# Altium integrated library Renesas ASSP.IntLib: 185 symbols (part 4 of 6)
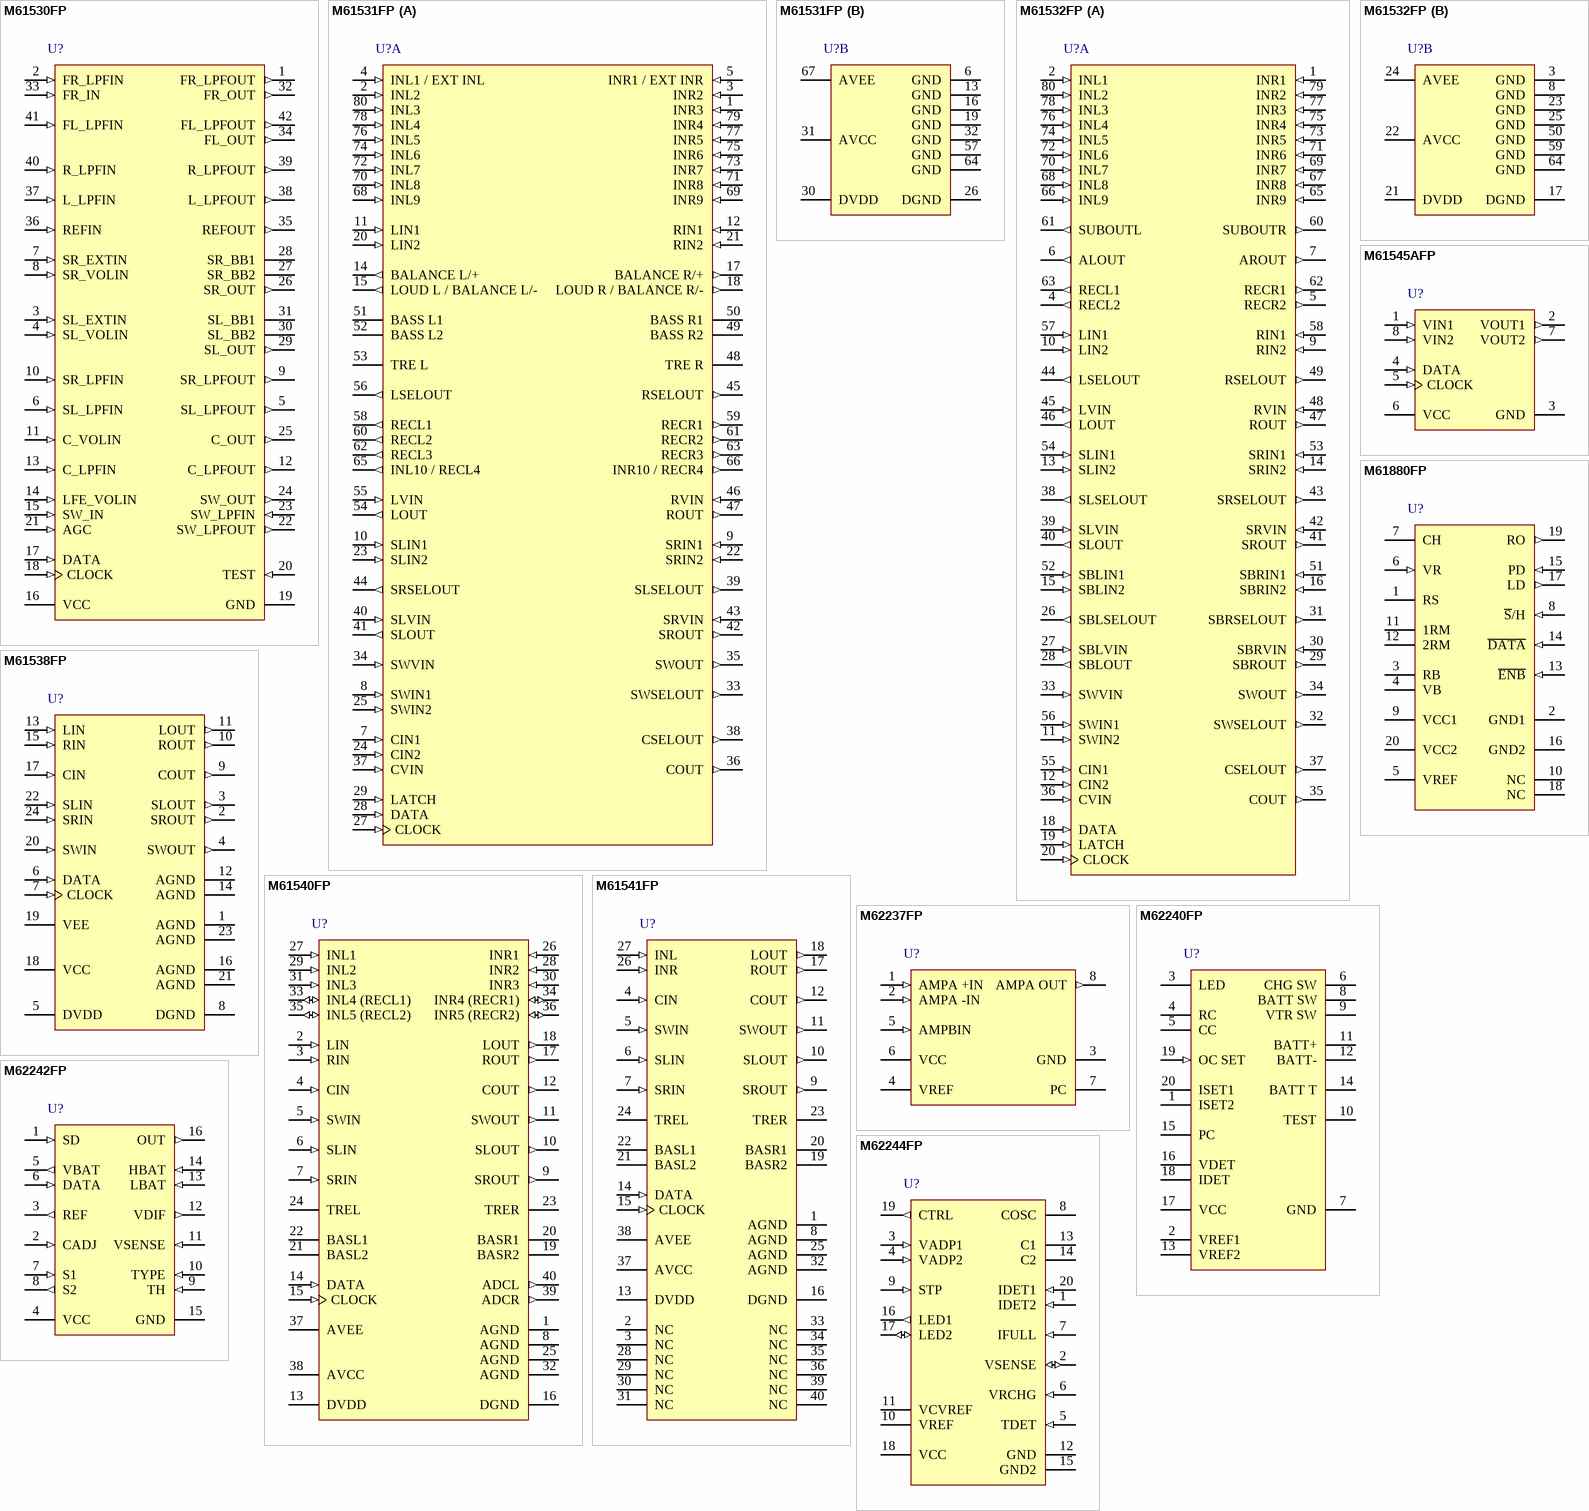
[diagram p19: symbols M61530FP to M62244FP]

## M61880FP
designator U?
Laser Diode Driver/Controller, 20-Pin SOP; Published: 5-Feb-2010; DatasheetVersion: Rev.1.0, Sep-2003; PackageVersion: Sep-2005; PackageReference: PRSP0020DA-A; Publisher: Altium Limited; PackageDescription: 20-Pin Plastic Small Outline Package, 12.6 x 5.3 x 1.8 mm Body, 1.27 mm Pitch; Code_JEITA: P-SOP20-5.3x12.6-1.27; ComponentLink1Description: Manufacturer Link; ComponentLink1URL: http://sg.renesas.com/fmwk.jsp?cnt=assp_category_landing.jsp&fp=/products/assp; ComponentLink2Description: Datasheet; ComponentLink2URL: http://documentation.renesas.com/eng/products/assp/rej03f0068_m61880fp.pdf; ComponentLink3Description: Packaging Specification; ComponentLink3URL: http://sg.renesas.com/media/products/common_info/package/pdf/ic/code/prsp0020da_a.pdf
footprint PRSP0020DA-A_N (SOP, 20-Leads, Body 12.6x5.3mm, Pitch 1.27mm, IPC Medium Density)
footprint PRSP0020DA-A_L (SOP, 20-Leads, Body 12.6x5.3mm, Pitch 1.27mm, IPC High Density)
footprint PRSP0020DA-A_M (SOP, 20-Leads, Body 12.6x5.3mm, Pitch 1.27mm, IPC Low Density)
pins: 1 RS, 2 GND1 (power), 3 RB, 4 VB, 5 VREF (power), 6 VR (in), 7 CH, 8 ~{S}/H (in), 9 VCC1 (power), 10 NC, 11 1RM, 12 2RM, 13 ~{ENB} (in), 14 ~{DATA} (in), 15 PD (in), 16 GND2 (power), 17 LD (out), 18 NC, 19 RO (out), 20 VCC2 (power)

## M62237FP
designator U?
Constant current/voltage control, 8-Pin SOP; Published: 5-Feb-2010; DatasheetVersion: Rev.2.00, Jun-2007; PackageVersion: Sep-2005; PackageReference: PRSP0008DA-A; Publisher: Altium Limited; PackageDescription: 8-Pin Plastic Small Outline Package, 5.0 x 4.4 mm Body, 1.27 mm Pitch; Code_JEITA: P-SOP8-4.4x5-1.27; ComponentLink1Description: Manufacturer Link; ComponentLink1URL: http://sg.renesas.com/fmwk.jsp?cnt=assp_category_landing.jsp&fp=/products/assp; ComponentLink2Description: Datasheet; ComponentLink2URL: http://documentation.renesas.com/eng/products/assp/rej03f0238_m62237fpds.pdf; ComponentLink3Description: Packaging Specification; ComponentLink3URL: http://sg.renesas.com/media/products/common_info/package/pdf/ic/code/prsp0008da_a.pdf
footprint PRSP0008DA-A_N (SOP, 8-Leads, Body 5x4.4mm, Pitch 1.27mm, IPC Medium Density)
footprint PRSP0008DA-A_L (SOP, 8-Leads, Body 5x4.4mm, Pitch 1.27mm, IPC High Density)
footprint PRSP0008DA-A_M (SOP, 8-Leads, Body 5x4.4mm, Pitch 1.27mm, IPC Low Density)
pins: 1 AMPA +IN (in), 2 AMPA -IN (in), 3 GND (power), 4 VREF (power), 5 AMPBIN (in), 6 VCC (power), 7 PC, 8 AMPA OUT (out)

## M62240FP
designator U?
Charge Control for Ni-Cd/Ni-MH battery, 20-Pin SOP; Published: 5-Feb-2010; DatasheetVersion: Rev.2.00, Sep-2007; PackageVersion: Sep-2005; PackageReference: PRSP0020DA-A; Publisher: Altium Limited; PackageDescription: 20-Pin Plastic Small Outline Package, 12.6 x 5.3 x 1.8 mm Body, 1.27 mm Pitch; Code_JEITA: P-SOP20-5.3x12.6-1.27; ComponentLink1Description: Manufacturer Link; ComponentLink1URL: http://sg.renesas.com/fmwk.jsp?cnt=assp_category_landing.jsp&fp=/products/assp; ComponentLink2Description: Datasheet; ComponentLink2URL: http://documentation.renesas.com/eng/products/assp/rej03f0239_m62240fpds.pdf; ComponentLink3Description: Packaging Specification; ComponentLink3URL: http://sg.renesas.com/media/products/common_info/package/pdf/ic/code/prsp0020da_a.pdf
footprint PRSP0020DA-A_N (SOP, 20-Leads, Body 12.6x5.3mm, Pitch 1.27mm, IPC Medium Density)
footprint PRSP0020DA-A_L (SOP, 20-Leads, Body 12.6x5.3mm, Pitch 1.27mm, IPC High Density)
footprint PRSP0020DA-A_M (SOP, 20-Leads, Body 12.6x5.3mm, Pitch 1.27mm, IPC Low Density)
pins: 1 ISET2, 2 VREF1 (power), 3 LED (oc), 4 RC, 5 CC, 6 CHG SW (oc), 7 GND (power), 8 BATT SW, 9 VTR SW, 10 TEST, 11 BATT+, 12 BATT-, 13 VREF2 (power), 14 BATT T, 15 PC, 16 VDET, 17 VCC (power), 18 IDET, 19 OC SET (in), 20 ISET1

## M62242FP
designator U?
Charge control, 16-Pin SOP; Published: 5-Feb-2010; DatasheetVersion: Rev.2.00, Sep-2007; PackageVersion: Sep-2005; PackageReference: PLSP0016JA-A; Publisher: Altium Limited; PackageDescription: 16-Pin Plastic Small Outline Package 0.65 mm Pitch; Code_JEITA: P-LSSOP16-4.4x5-0.65; ComponentLink1Description: Manufacturer Link; ComponentLink1URL: http://sg.renesas.com/fmwk.jsp?cnt=assp_category_landing.jsp&fp=/products/assp; ComponentLink2Description: Datasheet; ComponentLink2URL: http://documentation.renesas.com/eng/products/assp/rej03f0241_m62242fpds.pdf; ComponentLink3Description: Packaging Specification; ComponentLink3URL: http://sg.renesas.com/media/products/common_info/package/pdf/ic/code/plsp0016ja_a.pdf
footprint PLSP0016JA-A_N (SOP, 16-Leads, Body 5x4.4mm, Pitch 0.65mm, IPC Medium Density)
footprint PLSP0016JA-A_L (SOP, 16-Leads, Body 5x4.4mm, Pitch 0.65mm, IPC High Density)
footprint PLSP0016JA-A_M (SOP, 16-Leads, Body 5x4.4mm, Pitch 0.65mm, IPC Low Density)
pins: 1 SD (in), 2 CADJ (in), 3 REF (out), 4 VCC (power), 5 VBAT (out), 6 DATA (in), 7 S1 (in), 8 S2 (out), 9 TH (in), 10 TYPE (in), 11 VSENSE (in), 12 VDIF (out), 13 LBAT (in), 14 HBAT (in), 15 GND (power), 16 OUT (out)

## M62244FP
designator U?
Charge control for Li-ion battery, 20-Pin SOP; Published: 5-Feb-2010; DatasheetVersion: Rev.1.0, Sep-2003; PackageVersion: Sep-2005; PackageReference: PLSP0020JB-A; Publisher: Altium Limited; PackageDescription: 20-Pin Plastic Low Profile Shrink SOP, 6.5 x 4.4 x 1.15 mm Body, 0.65 mm Pitch; Code_JEITA: P-LSSOP20-4.4x6.5-0.65; Code_JEDEC: MO-152-AC; ComponentLink1Description: Manufacturer Link; ComponentLink1URL: http://sg.renesas.com/fmwk.jsp?cnt=assp_category_landing.jsp&fp=/products/assp; ComponentLink2Description: Datasheet; ComponentLink2URL: http://documentation.renesas.com/eng/products/assp/rej03f0067_m62244fp.pdf; ComponentLink3Description: Packaging Specification; ComponentLink3URL: http://sg.renesas.com/media/products/common_info/package/pdf/ic/code/plsp0020jb_a.pdf
footprint PLSP0020JB-A_N (SOP, 20-Leads, Body 6.5x4.4mm, Pitch 0.65mm, IPC Medium Density)
footprint PLSP0020JB-A_L (SOP, 20-Leads, Body 6.5x4.4mm, Pitch 0.65mm, IPC High Density)
footprint PLSP0020JB-A_M (SOP, 20-Leads, Body 6.5x4.4mm, Pitch 0.65mm, IPC Low Density)
pins: 1 IDET2 (in), 2 VSENSE (io), 3 VADP1 (in), 4 VADP2 (in), 5 TDET (in), 6 VRCHG (in), 7 IFULL (in), 8 COSC, 9 STP (in), 10 VREF (power), 11 VCVREF (power), 12 GND (power), 13 C1, 14 C2, 15 GND2 (power), 16 LED1 (out), 17 LED2 (io), 18 VCC (power), 19 CTRL (out), 20 IDET1 (in)

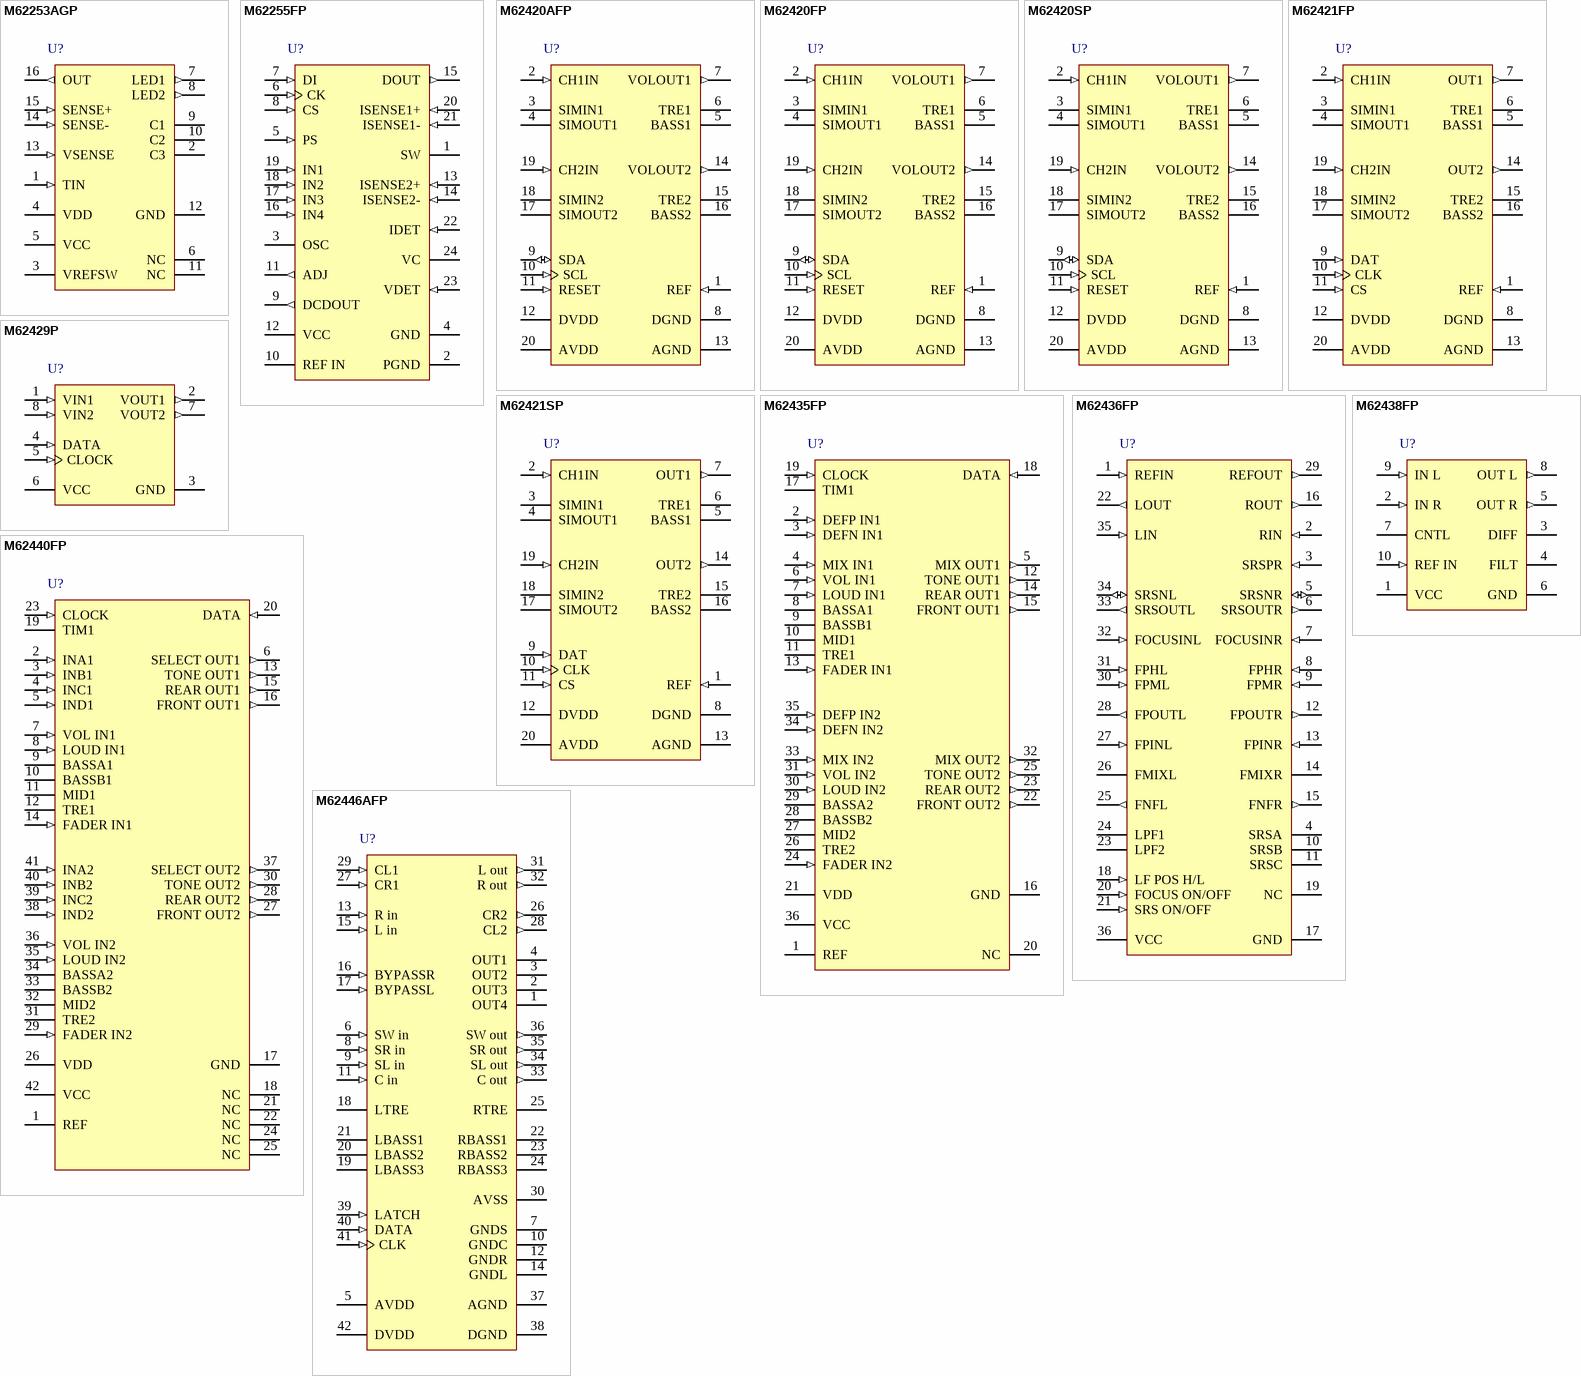
[diagram p9: symbols M62253AGP to M62446AFP]

## M62253AGP
designator U?
Charge control for Li-ion battery, 16-Pin SOP; Published: 5-Feb-2010; DatasheetVersion: Rev.2.00, Sep-2007; PackageVersion: Sep-2005; PackageReference: PLSP0016JA-A; Publisher: Altium Limited; PackageDescription: 16-Pin Plastic Small Outline Package 0.65 mm Pitch; Code_JEITA: P-LSSOP16-4.4x5-0.65; ComponentLink1Description: Manufacturer Link; ComponentLink1URL: http://sg.renesas.com/fmwk.jsp?cnt=assp_category_landing.jsp&fp=/products/assp; ComponentLink2Description: Datasheet; ComponentLink2URL: http://documentation.renesas.com/eng/products/assp/rej03f0242_m62253agpds.pdf; ComponentLink3Description: Packaging Specification; ComponentLink3URL: http://sg.renesas.com/media/products/common_info/package/pdf/ic/code/plsp0016ja_a.pdf
footprint PLSP0016JA-A_N (SOP, 16-Leads, Body 5x4.4mm, Pitch 0.65mm, IPC Medium Density)
footprint PLSP0016JA-A_L (SOP, 16-Leads, Body 5x4.4mm, Pitch 0.65mm, IPC High Density)
footprint PLSP0016JA-A_M (SOP, 16-Leads, Body 5x4.4mm, Pitch 0.65mm, IPC Low Density)
pins: 1 TIN (in), 2 C3, 3 VREFSW (power), 4 VDD (power), 5 VCC (power), 6 NC, 7 LED1 (out), 8 LED2 (out), 9 C1, 10 C2, 11 NC, 12 GND (power), 13 VSENSE (in), 14 SENSE- (in), 15 SENSE+ (in), 16 OUT (out)

## M62255FP
designator U?
Charge control for NOTE PC, 24-Pin SOP; Published: 5-Feb-2010; DatasheetVersion: Rev.2.00, Sep-2007; PackageVersion: Sep-2005; PackageReference: PRSP0024GA-A; Publisher: Altium Limited; PackageDescription: 24-Pin Plastic Shrink SOP, 10.1 x 5.3 x 1.8 mm Body, 0.8 mm Pitch; Code_JEITA: P-SSOP24-5.3x10.1-0.80; ComponentLink1Description: Manufacturer Link; ComponentLink1URL: http://sg.renesas.com/fmwk.jsp?cnt=assp_category_landing.jsp&fp=/products/assp; ComponentLink2Description: Datasheet; ComponentLink2URL: http://documentation.renesas.com/eng/products/assp/rej03f0245_m62255fpds.pdf; ComponentLink3Description: Packaging Specification; ComponentLink3URL: http://sg.renesas.com/media/products/common_info/package/pdf/ic/code/prsp0024ga_a.pdf
footprint PRSP0024GA-A_N (SOP, 24-Leads, Body 10.1x5.3mm, Pitch 0.8mm, IPC Medium Density)
footprint PRSP0024GA-A_L (SOP, 24-Leads, Body 10.1x5.3mm, Pitch 0.8mm, IPC High Density)
footprint PRSP0024GA-A_M (SOP, 24-Leads, Body 10.1x5.3mm, Pitch 0.8mm, IPC Low Density)
pins: 1 SW, 2 PGND (power), 3 OSC, 4 GND (power), 5 PS (in), 6 CK (in), 7 DI (in), 8 CS (in), 9 DCDOUT (out), 10 REF IN (power), 11 ADJ (out), 12 VCC (power), 13 ISENSE2+ (in), 14 ISENSE2- (in), 15 DOUT (out), 16 IN4 (in), 17 IN3 (in), 18 IN2 (in), 19 IN1 (in), 20 ISENSE1+ (in), 21 ISENSE1- (in), 22 IDET (in), 23 VDET (in), 24 VC

## M62420AFP
designator U?
I²C BUS Controlled Electronic Volume, 2 Channel, 20-Pin SOP; Published: 5-Feb-2010; DatasheetVersion: Rev.1.0, Sep-2003; PackageVersion: Sep-2005; PackageReference: PRSP0020DA-A; Publisher: Altium Limited; PackageDescription: 20-Pin Plastic Small Outline Package, 12.6 x 5.3 x 1.8 mm Body, 1.27 mm Pitch; Code_JEITA: P-SOP20-5.3x12.6-1.27; ComponentLink1Description: Manufacturer Link; ComponentLink1URL: http://sg.renesas.com/fmwk.jsp?cnt=assp_category_landing.jsp&fp=/products/assp; ComponentLink2Description: Datasheet; ComponentLink2URL: http://documentation.renesas.com/eng/products/assp/rej03f0051_m62420spfpafp.pdf; ComponentLink3Description: Packaging Specification; ComponentLink3URL: http://sg.renesas.com/media/products/common_info/package/pdf/ic/code/prsp0020da_a.pdf
footprint PRSP0020DA-A_N (SOP, 20-Leads, Body 12.6x5.3mm, Pitch 1.27mm, IPC Medium Density)
footprint PRSP0020DA-A_L (SOP, 20-Leads, Body 12.6x5.3mm, Pitch 1.27mm, IPC High Density)
footprint PRSP0020DA-A_M (SOP, 20-Leads, Body 12.6x5.3mm, Pitch 1.27mm, IPC Low Density)
pins: 1 REF (in), 2 CH1IN (in), 3 SIMIN1, 4 SIMOUT1, 5 BASS1, 6 TRE1, 7 VOLOUT1 (out), 8 DGND (power), 9 SDA (io), 10 SCL (in), 11 RESET (in), 12 DVDD (power), 13 AGND (power), 14 VOLOUT2 (out), 15 TRE2, 16 BASS2, 17 SIMOUT2, 18 SIMIN2, 19 CH2IN (in), 20 AVDD (power)

## M62420FP
designator U?
I²C BUS Controlled Electronic Volume, 2 Channel, 20-Pin SOP; Published: 5-Feb-2010; DatasheetVersion: Rev.1.0, Sep-2003; PackageVersion: Sep-2005; PackageReference: PRSP0020DA-A; Publisher: Altium Limited; PackageDescription: 20-Pin Plastic Small Outline Package, 12.6 x 5.3 x 1.8 mm Body, 1.27 mm Pitch; Code_JEITA: P-SOP20-5.3x12.6-1.27; ComponentLink1Description: Manufacturer Link; ComponentLink1URL: http://sg.renesas.com/fmwk.jsp?cnt=assp_category_landing.jsp&fp=/products/assp; ComponentLink2Description: Datasheet; ComponentLink2URL: http://documentation.renesas.com/eng/products/assp/rej03f0051_m62420spfpafp.pdf; ComponentLink3Description: Packaging Specification; ComponentLink3URL: http://sg.renesas.com/media/products/common_info/package/pdf/ic/code/prsp0020da_a.pdf
footprint PRSP0020DA-A_N (SOP, 20-Leads, Body 12.6x5.3mm, Pitch 1.27mm, IPC Medium Density)
footprint PRSP0020DA-A_L (SOP, 20-Leads, Body 12.6x5.3mm, Pitch 1.27mm, IPC High Density)
footprint PRSP0020DA-A_M (SOP, 20-Leads, Body 12.6x5.3mm, Pitch 1.27mm, IPC Low Density)
pins: 1 REF (in), 2 CH1IN (in), 3 SIMIN1, 4 SIMOUT1, 5 BASS1, 6 TRE1, 7 VOLOUT1 (out), 8 DGND (power), 9 SDA (io), 10 SCL (in), 11 RESET (in), 12 DVDD (power), 13 AGND (power), 14 VOLOUT2 (out), 15 TRE2, 16 BASS2, 17 SIMOUT2, 18 SIMIN2, 19 CH2IN (in), 20 AVDD (power)

## M62420SP
designator U?
I²C BUS Controlled Electronic Volume, 2 Channel, 20-Pin DIP; Published: 5-Feb-2010; DatasheetVersion: Rev.1.0, Sep-2003; PackageVersion: Sep-2005; PackageReference: PRDP0020BA-A; Publisher: Altium Limited; PackageDescription: 20-Pin Plastic Shrink DIP, 19 x 6.3 mm Body, 7.62 mm Row Spacing, 1.778 mm Pitch; Code_JEITA: P-SDIP20-6.3x19-1.78; ComponentLink1Description: Manufacturer Link; ComponentLink1URL: http://sg.renesas.com/fmwk.jsp?cnt=assp_category_landing.jsp&fp=/products/assp; ComponentLink2Description: Datasheet; ComponentLink2URL: http://documentation.renesas.com/eng/products/assp/rej03f0051_m62420spfpafp.pdf; ComponentLink3Description: Packaging Specification; ComponentLink3URL: http://sg.renesas.com/media/products/common_info/package/pdf/ic/code/prdp0020ba_a.pdf
footprint PRDP0020BA-A (DIP, 20-Leads, Row Spacing 7.62mm, Pitch 1.778mm, Body 19x6.3mm)
pins: 1 REF (in), 2 CH1IN (in), 3 SIMIN1, 4 SIMOUT1, 5 BASS1, 6 TRE1, 7 VOLOUT1 (out), 8 DGND (power), 9 SDA (io), 10 SCL (in), 11 RESET (in), 12 DVDD (power), 13 AGND (power), 14 VOLOUT2 (out), 15 TRE2, 16 BASS2, 17 SIMOUT2, 18 SIMIN2, 19 CH2IN (in), 20 AVDD (power)

## M62421FP
designator U?
Tone and Volume Controller with 2 Line Control, 20-Pin SOP; Published: 5-Feb-2010; DatasheetVersion: Rev.2.01, Mar-2008; PackageVersion: Sep-2005; PackageReference: PRSP0020DA-A; Publisher: Altium Limited; PackageDescription: 20-Pin Plastic Small Outline Package, 12.6 x 5.3 x 1.8 mm Body, 1.27 mm Pitch; Code_JEITA: P-SOP20-5.3x12.6-1.27; ComponentLink1Description: Manufacturer Link; ComponentLink1URL: http://sg.renesas.com/fmwk.jsp?cnt=assp_category_landing.jsp&fp=/products/assp; ComponentLink2Description: Datasheet; ComponentLink2URL: http://documentation.renesas.com/eng/products/assp/rej03f0208_m62421spds.pdf; ComponentLink3Description: Packaging Specification; ComponentLink3URL: http://sg.renesas.com/media/products/common_info/package/pdf/ic/code/prsp0020da_a.pdf
footprint PRSP0020DA-A_N (SOP, 20-Leads, Body 12.6x5.3mm, Pitch 1.27mm, IPC Medium Density)
footprint PRSP0020DA-A_L (SOP, 20-Leads, Body 12.6x5.3mm, Pitch 1.27mm, IPC High Density)
footprint PRSP0020DA-A_M (SOP, 20-Leads, Body 12.6x5.3mm, Pitch 1.27mm, IPC Low Density)
pins: 1 REF (in), 2 CH1IN (in), 3 SIMIN1, 4 SIMOUT1, 5 BASS1, 6 TRE1, 7 OUT1 (out), 8 DGND (power), 9 DAT (in), 10 CLK (in), 11 CS (in), 12 DVDD (power), 13 AGND (power), 14 OUT2 (out), 15 TRE2, 16 BASS2, 17 SIMOUT2, 18 SIMIN2, 19 CH2IN (in), 20 AVDD (power)

## M62421SP
designator U?
Tone and Volume Controller with 2 Line Control, 20-Pin DIP; Published: 5-Feb-2010; DatasheetVersion: Rev.2.01, Mar-2008; PackageVersion: Sep-2005; PackageReference: PRDP0020BA-A; Publisher: Altium Limited; PackageDescription: 20-Pin Plastic Shrink DIP, 19 x 6.3 mm Body, 7.62 mm Row Spacing, 1.778 mm Pitch; Code_JEITA: P-SDIP20-6.3x19-1.78; ComponentLink1Description: Manufacturer Link; ComponentLink1URL: http://sg.renesas.com/fmwk.jsp?cnt=assp_category_landing.jsp&fp=/products/assp; ComponentLink2Description: Datasheet; ComponentLink2URL: http://documentation.renesas.com/eng/products/assp/rej03f0208_m62421spds.pdf; ComponentLink3Description: Packaging Specification; ComponentLink3URL: http://sg.renesas.com/media/products/common_info/package/pdf/ic/code/prdp0020ba_a.pdf
footprint PRDP0020BA-A (DIP, 20-Leads, Row Spacing 7.62mm, Pitch 1.778mm, Body 19x6.3mm)
pins: 1 REF (in), 2 CH1IN (in), 3 SIMIN1, 4 SIMOUT1, 5 BASS1, 6 TRE1, 7 OUT1 (out), 8 DGND (power), 9 DAT (in), 10 CLK (in), 11 CS (in), 12 DVDD (power), 13 AGND (power), 14 OUT2 (out), 15 TRE2, 16 BASS2, 17 SIMOUT2, 18 SIMIN2, 19 CH2IN (in), 20 AVDD (power)

## M62429P
designator U?
Dual Electronic Volume with Serial Data Microcomputer Interface, 8-Pin DIP; Published: 5-Feb-2010; DatasheetVersion: Rev.3.00, Jun-2007; PackageVersion: Sep-2005; PackageReference: PRDP0008AA-A; Publisher: Altium Limited; PackageDescription: 8-Pin Plastic DIP, 8.9 x 6.3 mm Body, 7.62 mm Row Spacing, Pitch 2.54 mm; Code_JEITA: P-DIP8-6.3x8.84-2.54; ComponentLink1Description: Manufacturer Link; ComponentLink1URL: http://sg.renesas.com/fmwk.jsp?cnt=assp_category_landing.jsp&fp=/products/assp; ComponentLink2Description: Datasheet; ComponentLink2URL: http://documentation.renesas.com/eng/products/assp/rej03f0209_m62429pds.pdf; ComponentLink3Description: Packaging Specification; ComponentLink3URL: http://sg.renesas.com/media/products/common_info/package/pdf/ic/code/prdp0008aa_a.pdf
footprint PRDP0008AA-A (DIP, 8-Leads, Row Spacing 7.62mm, Pitch 2.54mm, Body 8.9x6.3mm)
pins: 1 VIN1 (in), 2 VOUT1 (out), 3 GND (power), 4 DATA (in), 5 CLOCK (in), 6 VCC (power), 7 VOUT2 (out), 8 VIN2 (in)

## M62435FP
designator U?
Sound Controller, 36-Pin SOP; Published: 5-Feb-2010; DatasheetVersion: Rev.2.01, Mar-2008; PackageVersion: Sep-2005; PackageReference: PRSP0036GA-A; Publisher: Altium Limited; PackageDescription: 36-Pin Plastic Shrink SOP, 15 x 8.4 mm Body, 0.8 mm Pitch; Code_JEITA: P-SSOP36-8.4x15-0.80; ComponentLink1Description: Manufacturer Link; ComponentLink1URL: http://sg.renesas.com/fmwk.jsp?cnt=assp_category_landing.jsp&fp=/products/assp; ComponentLink2Description: Datasheet; ComponentLink2URL: http://documentation.renesas.com/eng/products/assp/rej03f0210_m62435fpds.pdf; ComponentLink3Description: Packaging Specification; ComponentLink3URL: http://sg.renesas.com/media/products/common_info/package/pdf/ic/code/prsp0036ga_a.pdf
footprint PRSP0036GA-A_N (SOP, 36-Leads, Body 15x8.4mm, Pitch 0.8mm, IPC Medium Density)
footprint PRSP0036GA-A_L (SOP, 36-Leads, Body 15x8.4mm, Pitch 0.8mm, IPC High Density)
footprint PRSP0036GA-A_M (SOP, 36-Leads, Body 15x8.4mm, Pitch 0.8mm, IPC Low Density)
pins: 1 REF, 2 DEFP IN1 (in), 3 DEFN IN1 (in), 4 MIX IN1 (in), 5 MIX OUT1 (out), 6 VOL IN1 (in), 7 LOUD IN1 (in), 8 BASSA1, 9 BASSB1, 10 MID1, 11 TRE1, 12 TONE OUT1 (out), 13 FADER IN1 (in), 14 REAR OUT1 (out), 15 FRONT OUT1 (out), 16 GND (power), 17 TIM1, 18 DATA (in), 19 CLOCK (in), 20 NC, 21 VDD (power), 22 FRONT OUT2 (out), 23 REAR OUT2 (out), 24 FADER IN2 (in), 25 TONE OUT2 (out), 26 TRE2, 27 MID2, 28 BASSB2, 29 BASSA2, 30 LOUD IN2 (in), 31 VOL IN2 (in), 32 MIX OUT2 (out), 33 MIX IN2 (in), 34 DEFN IN2 (in), 35 DEFP IN2 (in), 36 VCC (power)

## M62436FP
designator U?
SRS 3D Sound + Focus, 36-Pin SOP; Published: 5-Feb-2010; DatasheetVersion: Rev.1.0, Sep-2003; PackageVersion: Sep-2005; PackageReference: PRSP0036GA-A; Publisher: Altium Limited; PackageDescription: 36-Pin Plastic Shrink SOP, 15 x 8.4 mm Body, 0.8 mm Pitch; Code_JEITA: P-SSOP36-8.4x15-0.80; ComponentLink1Description: Manufacturer Link; ComponentLink1URL: http://sg.renesas.com/fmwk.jsp?cnt=assp_category_landing.jsp&fp=/products/assp; ComponentLink2Description: Datasheet; ComponentLink2URL: http://documentation.renesas.com/eng/products/assp/rej03f0061_m62436fp.pdf; ComponentLink3Description: Packaging Specification; ComponentLink3URL: http://sg.renesas.com/media/products/common_info/package/pdf/ic/code/prsp0036ga_a.pdf
footprint PRSP0036GA-A_N (SOP, 36-Leads, Body 15x8.4mm, Pitch 0.8mm, IPC Medium Density)
footprint PRSP0036GA-A_L (SOP, 36-Leads, Body 15x8.4mm, Pitch 0.8mm, IPC High Density)
footprint PRSP0036GA-A_M (SOP, 36-Leads, Body 15x8.4mm, Pitch 0.8mm, IPC Low Density)
pins: 1 REFIN (in), 2 RIN (in), 3 SRSPR (in), 4 SRSA, 5 SRSNR (io), 6 SRSOUTR (out), 7 FOCUSINR (in), 8 FPHR (in), 9 FPMR (in), 10 SRSB, 11 SRSC, 12 FPOUTR (out), 13 FPINR (in), 14 FMIXR, 15 FNFR (out), 16 ROUT (out), 17 GND (power), 18 LF POS H/L (in), 19 NC, 20 FOCUS ON/OFF (in), 21 SRS ON/OFF (in), 22 LOUT (out), 23 LPF2, 24 LPF1, 25 FNFL (out), 26 FMIXL, 27 FPINL (in), 28 FPOUTL (out), 29 REFOUT (out), 30 FPML (in), 31 FPHL (in), 32 FOCUSINL (in), 33 SRSOUTL (out), 34 SRSNL (io), 35 LIN (in), 36 VCC (power)

## M62438FP
designator U?
Simplified SRS 3D Sound Processor, 10-Pin SOP; Published: 5-Feb-2010; DatasheetVersion: Rev.2.01, Mar-2008; PackageVersion: Sep-2005; PackageReference: PRSP0010DB-A; Publisher: Altium Limited; PackageDescription: 10-Pin Plastic Small Outline Package, 6.8 x 5.7 mm Body, 1.27 mm Pitch; Code_JEITA: P-SOP10-5.7x6.8-1.27; ComponentLink1Description: Manufacturer Link; ComponentLink1URL: http://sg.renesas.com/fmwk.jsp?cnt=assp_category_landing.jsp&fp=/products/assp; ComponentLink2Description: Datasheet; ComponentLink2URL: http://documentation.renesas.com/eng/products/assp/rej03f0217_m62438fpds.pdf; ComponentLink3Description: Packaging Specification; ComponentLink3URL: http://sg.renesas.com/media/products/common_info/package/pdf/ic/code/prsp0010db_a.pdf
footprint PRSP0010DB-A_N (SOP, 10-Leads, Body 6.8x5.7mm, Pitch 1.27mm, IPC Medium Density)
footprint PRSP0010DB-A_L (SOP, 10-Leads, Body 6.8x5.7mm, Pitch 1.27mm, IPC High Density)
footprint PRSP0010DB-A_M (SOP, 10-Leads, Body 6.8x5.7mm, Pitch 1.27mm, IPC Low Density)
pins: 1 VCC (power), 2 IN R (in), 3 DIFF, 4 FILT, 5 OUT R (out), 6 GND (power), 7 CNTL, 8 OUT L (out), 9 IN L (in), 10 REF IN (in)

## M62440FP
designator U?
Sound Controller, 42-Pin SOP; Published: 5-Feb-2010; DatasheetVersion: Rev.2.01, Mar-2008; PackageVersion: Sep-2005; PackageReference: PRSP0042GA-B; Publisher: Altium Limited; PackageDescription: 42-Pin Plastic Shrink SOP, 17.5 x 8.4 mm Body, 0.8 mm Pitch; Code_JEITA: P-SSOP42-8.4x17.5-0.80; ComponentLink1Description: Manufacturer Link; ComponentLink1URL: http://sg.renesas.com/fmwk.jsp?cnt=assp_category_landing.jsp&fp=/products/assp; ComponentLink2Description: Datasheet; ComponentLink2URL: http://documentation.renesas.com/eng/products/assp/rej03f0211_m62440fpds.pdf; ComponentLink3Description: Packaging Specification; ComponentLink3URL: http://sg.renesas.com/media/products/common_info/package/pdf/ic/code/prsp0042ga_b.pdf
footprint PRSP0042GA-B_N (SOP, 42-Leads, Body 17.5x8.4mm, Pitch 0.8mm, IPC Medium Density)
footprint PRSP0042GA-B_L (SOP, 42-Leads, Body 17.5x8.4mm, Pitch 0.8mm, IPC High Density)
footprint PRSP0042GA-B_M (SOP, 42-Leads, Body 17.5x8.4mm, Pitch 0.8mm, IPC Low Density)
pins: 1 REF, 2 INA1 (in), 3 INB1 (in), 4 INC1 (in), 5 IND1 (in), 6 SELECT OUT1 (out), 7 VOL IN1 (in), 8 LOUD IN1 (in), 9 BASSA1, 10 BASSB1, 11 MID1, 12 TRE1, 13 TONE OUT1 (out), 14 FADER IN1 (in), 15 REAR OUT1 (out), 16 FRONT OUT1 (out), 17 GND (power), 18 NC, 19 TIM1, 20 DATA (in), 21 NC, 22 NC, 23 CLOCK (in), 24 NC, 25 NC, 26 VDD (power), 27 FRONT OUT2 (out), 28 REAR OUT2 (out), 29 FADER IN2 (in), 30 TONE OUT2 (out), 31 TRE2, 32 MID2, 33 BASSB2, 34 BASSA2, 35 LOUD IN2 (in), 36 VOL IN2 (in), 37 SELECT OUT2 (out), 38 IND2 (in), 39 INC2 (in), 40 INB2 (in), 41 INA2 (in), 42 VCC (power)

## M62446AFP
designator U?
6-Channel Electronic Volume with Tone Control, 42-Pin SOP; Published: 5-Feb-2010; DatasheetVersion: Rev.2.01, Mar-2008; PackageVersion: Sep-2005; PackageReference: PRSP0042GA-B; Publisher: Altium Limited; PackageDescription: 42-Pin Plastic Shrink SOP, 17.5 x 8.4 mm Body, 0.8 mm Pitch; Code_JEITA: P-SSOP42-8.4x17.5-0.80; ComponentLink1Description: Manufacturer Link; ComponentLink1URL: http://sg.renesas.com/fmwk.jsp?cnt=assp_category_landing.jsp&fp=/products/assp; ComponentLink2Description: Datasheet; ComponentLink2URL: http://documentation.renesas.com/eng/products/assp/rej03f0212_m62446afpds.pdf; ComponentLink3Description: Packaging Specification; ComponentLink3URL: http://sg.renesas.com/media/products/common_info/package/pdf/ic/code/prsp0042ga_b.pdf
footprint PRSP0042GA-B_N (SOP, 42-Leads, Body 17.5x8.4mm, Pitch 0.8mm, IPC Medium Density)
footprint PRSP0042GA-B_L (SOP, 42-Leads, Body 17.5x8.4mm, Pitch 0.8mm, IPC High Density)
footprint PRSP0042GA-B_M (SOP, 42-Leads, Body 17.5x8.4mm, Pitch 0.8mm, IPC Low Density)
pins: 1 OUT4 (oe), 2 OUT3 (oe), 3 OUT2 (oe), 4 OUT1 (oe), 5 AVDD (power), 6 SW in (in), 7 GNDS (power), 8 SR in (in), 9 SL in (in), 10 GNDC (power), 11 C in (in), 12 GNDR (power), 13 R in (in), 14 GNDL (power), 15 L in (in), 16 BYPASSR (in), 17 BYPASSL (in), 18 LTRE, 19 LBASS3, 20 LBASS2, 21 LBASS1, 22 RBASS1, 23 RBASS2, 24 RBASS3, 25 RTRE, 26 CR2 (out), 27 CR1 (in), 28 CL2 (out), 29 CL1 (in), 30 AVSS (power), 31 L out (out), 32 R out (out), 33 C out (out), 34 SL out (out), 35 SR out (out), 36 SW out (out), 37 AGND (power), 38 DGND (power), 39 LATCH (in), 40 DATA (in), 41 CLK (in), 42 DVDD (power)

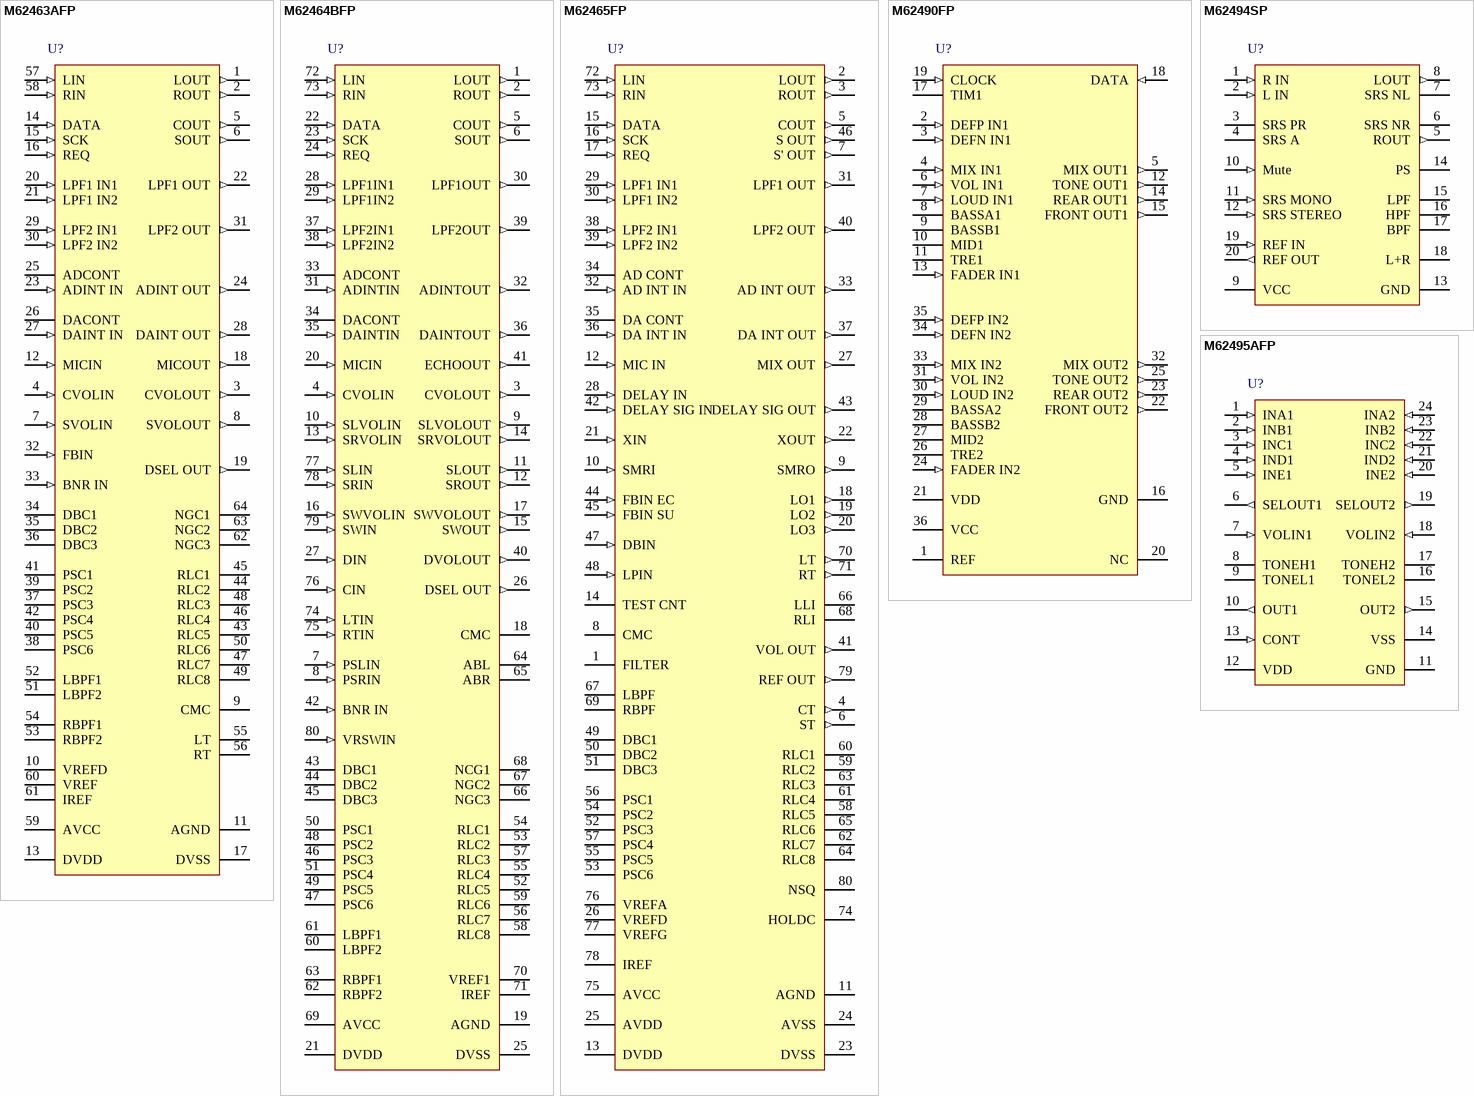
[diagram p10: symbols M62463AFP to M62495AFP]

## M62463AFP
designator U?
Single Chip Dolby Pro Logic Decoder, 64-Pin QFP; Published: 5-Feb-2010; DatasheetVersion: Rev.2.00, Jun-2008; PackageVersion: Sep-2005; PackageReference: PRQP0064GA-A; Publisher: Altium Limited; PackageDescription: 64-Pin Plastic Quad Flat Pack, 14 x 14 x 2.8 mm Body, 0.8 mm Pitch; Code_JEITA: P-QFP64-14x14-0.80; ComponentLink1Description: Manufacturer Link; ComponentLink1URL: http://sg.renesas.com/fmwk.jsp?cnt=assp_category_landing.jsp&fp=/products/assp; ComponentLink2Description: Datasheet; ComponentLink2URL: http://documentation.renesas.com/eng/products/assp/rej03f0275_m62463afpds.pdf; ComponentLink3Description: Packaging Specification; ComponentLink3URL: http://sg.renesas.com/media/products/common_info/package/pdf/ic/code/prqp0064ga_a.pdf
footprint PRQP0064GA-A_N (QFP, 64-Leads, Body 14x14mm, Pitch 0.8mm, IPC Medium Density)
footprint PRQP0064GA-A_L (QFP, 64-Leads, Body 14x14mm, Pitch 0.8mm, IPC High Density)
footprint PRQP0064GA-A_M (QFP, 64-Leads, Body 14x14mm, Pitch 0.8mm, IPC Low Density)
pins: 1 LOUT (out), 2 ROUT (out), 3 CVOLOUT (out), 4 CVOLIN (in), 5 COUT (out), 6 SOUT (out), 7 SVOLIN (in), 8 SVOLOUT (out), 9 CMC, 10 VREFD (power), 11 AGND (power), 12 MICIN (in), 13 DVDD (power), 14 DATA (in), 15 SCK (in), 16 REQ (in), 17 DVSS (power), 18 MICOUT (out), 19 DSEL OUT (out), 20 LPF1 IN1 (in), 21 LPF1 IN2 (in), 22 LPF1 OUT (out), 23 ADINT IN (in), 24 ADINT OUT (out), 25 ADCONT, 26 DACONT, 27 DAINT IN (in), 28 DAINT OUT (out), 29 LPF2 IN1 (in), 30 LPF2 IN2 (in), 31 LPF2 OUT (out), 32 FBIN (in), 33 BNR IN (in), 34 DBC1, 35 DBC2, 36 DBC3, 37 PSC3, 38 PSC6, 39 PSC2, 40 PSC5, 41 PSC1, 42 PSC4, 43 RLC5, 44 RLC2, 45 RLC1, 46 RLC4, 47 RLC7, 48 RLC3, 49 RLC8, 50 RLC6, 51 LBPF2, 52 LBPF1, 53 RBPF2, 54 RBPF1, 55 LT, 56 RT, 57 LIN (in), 58 RIN (in), 59 AVCC (power), 60 VREF (power), 61 IREF, 62 NGC3, 63 NGC2, 64 NGC1

## M62464BFP
designator U?
Single Chip Dolby Pro Logic Decoder with discrete 5.1 Channel Input, 80-Pin QFP; Published: 5-Feb-2010; DatasheetVersion: Rev.2.01, Mar-2008; PackageVersion: Sep-2005; PackageReference: PRQP0080GB-A; Publisher: Altium Limited; PackageDescription: 80-Pin Plastic Quad Flat Pack, 20 x 14 x 2.8 mm Body, 0.8 mm Pitch; Code_JEITA: P-QFP80-14x20-0.80; ComponentLink1Description: Manufacturer Link; ComponentLink1URL: http://sg.renesas.com/fmwk.jsp?cnt=assp_category_landing.jsp&fp=/products/assp; ComponentLink2Description: Datasheet; ComponentLink2URL: http://documentation.renesas.com/eng/products/assp/rej03f0218_m62464bfpds.pdf; ComponentLink3Description: Packaging Specification; ComponentLink3URL: http://sg.renesas.com/media/products/common_info/package/pdf/ic/code/prqp0080gb_a.pdf
footprint PRQP0080GB-A_N (QFP, 80-Leads, Body 20x14mm, Pitch 0.8mm, IPC Medium Density)
footprint PRQP0080GB-A_L (QFP, 80-Leads, Body 20x14mm, Pitch 0.8mm, IPC High Density)
footprint PRQP0080GB-A_M (QFP, 80-Leads, Body 20x14mm, Pitch 0.8mm, IPC Low Density)
pins: 1 LOUT (out), 2 ROUT (out), 3 CVOLOUT (out), 4 CVOLIN (in), 5 COUT (out), 6 SOUT (out), 7 PSLIN (in), 8 PSRIN (in), 9 SLVOLOUT (out), 10 SLVOLIN (in), 11 SLOUT (out), 12 SROUT (out), 13 SRVOLIN (in), 14 SRVOLOUT (out), 15 SWOUT (out), 16 SWVOLIN (in), 17 SWVOLOUT (out), 18 CMC, 19 AGND (power), 20 MICIN (in), 21 DVDD (power), 22 DATA (in), 23 SCK (in), 24 REQ (in), 25 DVSS (power), 26 DSEL OUT (out), 27 DIN (in), 28 LPF1IN1 (in), 29 LPF1IN2 (in), 30 LPF1OUT (out), 31 ADINTIN (in), 32 ADINTOUT (out), 33 ADCONT, 34 DACONT, 35 DAINTIN (in), 36 DAINTOUT (out), 37 LPF2IN1 (in), 38 LPF2IN2 (in), 39 LPF2OUT (out), 40 DVOLOUT (out), 41 ECHOOUT (out), 42 BNR IN (in), 43 DBC1, 44 DBC2, 45 DBC3, 46 PSC3, 47 PSC6, 48 PSC2, 49 PSC5, 50 PSC1, 51 PSC4, 52 RLC5, 53 RLC2, 54 RLC1, 55 RLC4, 56 RLC7, 57 RLC3, 58 RLC8, 59 RLC6, 60 LBPF2, 61 LBPF1, 62 RBPF2, 63 RBPF1, 64 ABL, 65 ABR, 66 NGC3, 67 NGC2, 68 NCG1, 69 AVCC (power), 70 VREF1 (power), 71 IREF, 72 LIN (in), 73 RIN (in), 74 LTIN (in), 75 RTIN (in), 76 CIN (in), 77 SLIN (in), 78 SRIN (in), 79 SWIN (in), 80 VRSWIN (in)

## M62465FP
designator U?
Single Chip Surround Processor with Dolby Pro Logic Decoder, 80-Pin QFP; Published: 5-Feb-2010; DatasheetVersion: Rev.2.01, Mar-2008; PackageVersion: Sep-2005; PackageReference: PRQP0080GB-A; Publisher: Altium Limited; PackageDescription: 80-Pin Plastic Quad Flat Pack, 20 x 14 x 2.8 mm Body, 0.8 mm Pitch; Code_JEITA: P-QFP80-14x20-0.80; ComponentLink1Description: Manufacturer Link; ComponentLink1URL: http://sg.renesas.com/fmwk.jsp?cnt=assp_category_landing.jsp&fp=/products/assp; ComponentLink2Description: Datasheet; ComponentLink2URL: http://documentation.renesas.com/eng/products/assp/rej03f0219_m62465fpds.pdf; ComponentLink3Description: Packaging Specification; ComponentLink3URL: http://sg.renesas.com/media/products/common_info/package/pdf/ic/code/prqp0080gb_a.pdf
footprint PRQP0080GB-A_N (QFP, 80-Leads, Body 20x14mm, Pitch 0.8mm, IPC Medium Density)
footprint PRQP0080GB-A_L (QFP, 80-Leads, Body 20x14mm, Pitch 0.8mm, IPC High Density)
footprint PRQP0080GB-A_M (QFP, 80-Leads, Body 20x14mm, Pitch 0.8mm, IPC Low Density)
pins: 1 FILTER, 2 LOUT (out), 3 ROUT (out), 4 CT (out), 5 COUT (out), 6 ST (out), 7 S' OUT (out), 8 CMC, 9 SMRO (out), 10 SMRI (in), 11 AGND (power), 12 MIC IN (in), 13 DVDD (power), 14 TEST CNT, 15 DATA (in), 16 SCK (in), 17 REQ (in), 18 LO1 (out), 19 LO2 (out), 20 LO3 (out), 21 XIN (in), 22 XOUT (out), 23 DVSS (power), 24 AVSS (power), 25 AVDD (power), 26 VREFD (power), 27 MIX OUT (out), 28 DELAY IN (in), 29 LPF1 IN1 (in), 30 LPF1 IN2 (in), 31 LPF1 OUT (out), 32 AD INT IN (in), 33 AD INT OUT (out), 34 AD CONT, 35 DA CONT, 36 DA INT IN (in), 37 DA INT OUT (out), 38 LPF2 IN1 (in), 39 LPF2 IN2 (in), 40 LPF2 OUT (out), 41 VOL OUT (out), 42 DELAY SIG IN (in), 43 DELAY SIG OUT (out), 44 FBIN EC (in), 45 FBIN SU (in), 46 S OUT (out), 47 DBIN (in), 48 LPIN (in), 49 DBC1, 50 DBC2, 51 DBC3, 52 PSC3, 53 PSC6, 54 PSC2, 55 PSC5, 56 PSC1, 57 PSC4, 58 RLC5, 59 RLC2, 60 RLC1, 61 RLC4, 62 RLC7, 63 RLC3, 64 RLC8, 65 RLC6, 66 LLI, 67 LBPF, 68 RLI, 69 RBPF, 70 LT (out), 71 RT (out), 72 LIN (in), 73 RIN (in), 74 HOLDC, 75 AVCC (power), 76 VREFA (power), 77 VREFG (power), 78 IREF, 79 REF OUT (out), 80 NSQ

## M62490FP
designator U?
Sound Controller, 36-Pin SOP; Published: 5-Feb-2010; DatasheetVersion: Rev.2.00, Sep-2006; PackageVersion: Sep-2005; PackageReference: PRSP0036GA-A; Publisher: Altium Limited; PackageDescription: 36-Pin Plastic Shrink SOP, 15 x 8.4 mm Body, 0.8 mm Pitch; Code_JEITA: P-SSOP36-8.4x15-0.80; ComponentLink1Description: Manufacturer Link; ComponentLink1URL: http://sg.renesas.com/fmwk.jsp?cnt=assp_category_landing.jsp&fp=/products/assp; ComponentLink2Description: Datasheet; ComponentLink2URL: http://documentation.renesas.com/eng/products/assp/rej03f0213_m62490fpds.pdf; ComponentLink3Description: Packaging Specification; ComponentLink3URL: http://sg.renesas.com/media/products/common_info/package/pdf/ic/code/prsp0036ga_a.pdf
footprint PRSP0036GA-A_N (SOP, 36-Leads, Body 15x8.4mm, Pitch 0.8mm, IPC Medium Density)
footprint PRSP0036GA-A_L (SOP, 36-Leads, Body 15x8.4mm, Pitch 0.8mm, IPC High Density)
footprint PRSP0036GA-A_M (SOP, 36-Leads, Body 15x8.4mm, Pitch 0.8mm, IPC Low Density)
pins: 1 REF, 2 DEFP IN1 (in), 3 DEFN IN1 (in), 4 MIX IN1 (in), 5 MIX OUT1 (out), 6 VOL IN1 (in), 7 LOUD IN1 (in), 8 BASSA1, 9 BASSB1, 10 MID1, 11 TRE1, 12 TONE OUT1 (out), 13 FADER IN1 (in), 14 REAR OUT1 (out), 15 FRONT OUT1 (out), 16 GND (power), 17 TIM1, 18 DATA (in), 19 CLOCK (in), 20 NC, 21 VDD (power), 22 FRONT OUT2 (out), 23 REAR OUT2 (out), 24 FADER IN2 (in), 25 TONE OUT2 (out), 26 TRE2, 27 MID2, 28 BASSB2, 29 BASSA2, 30 LOUD IN2 (in), 31 VOL IN2 (in), 32 MIX OUT2 (out), 33 MIX IN2 (in), 34 DEFN IN2 (in), 35 DEFP IN2 (in), 36 VCC (power)

## M62494SP
designator U?
SRS 3D Stereo + SRS 3D Mono 1Chip, 20-Pin DIP; Published: 5-Feb-2010; DatasheetVersion: Rev.2.01, Mar-2008; PackageVersion: Sep-2005; PackageReference: PRDP0020BA-A; Publisher: Altium Limited; PackageDescription: 20-Pin Plastic Shrink DIP, 19 x 6.3 mm Body, 7.62 mm Row Spacing, 1.778 mm Pitch; Code_JEITA: P-SDIP20-6.3x19-1.78; ComponentLink1Description: Manufacturer Link; ComponentLink1URL: http://sg.renesas.com/fmwk.jsp?cnt=assp_category_landing.jsp&fp=/products/assp; ComponentLink2Description: Datasheet; ComponentLink2URL: http://documentation.renesas.com/eng/products/assp/rej03f0220_m62494spds.pdf; ComponentLink3Description: Packaging Specification; ComponentLink3URL: http://sg.renesas.com/media/products/common_info/package/pdf/ic/code/prdp0020ba_a.pdf
footprint PRDP0020BA-A (DIP, 20-Leads, Row Spacing 7.62mm, Pitch 1.778mm, Body 19x6.3mm)
pins: 1 R IN (in), 2 L IN (in), 3 SRS PR, 4 SRS A, 5 ROUT (out), 6 SRS NR, 7 SRS NL, 8 LOUT (out), 9 VCC (power), 10 Mute (in), 11 SRS MONO (in), 12 SRS STEREO (in), 13 GND (power), 14 PS, 15 LPF, 16 HPF, 17 BPF, 18 L+R, 19 REF IN (in), 20 REF OUT (out)

## M62495AFP
designator U?
Tone Control / Volume Control, 24-Pin SOP; Published: 5-Feb-2010; DatasheetVersion: Rev.1.00, Jul-2003; PackageVersion: Sep-2005; PackageReference: PRSP0024GA-A; Publisher: Altium Limited; PackageDescription: 24-Pin Plastic Shrink SOP, 10.1 x 5.3 x 1.8 mm Body, 0.8 mm Pitch; Code_JEITA: P-SSOP24-5.3x10.1-0.80; ComponentLink1Description: Manufacturer Link; ComponentLink1URL: http://sg.renesas.com/fmwk.jsp?cnt=assp_category_landing.jsp&fp=/products/assp; ComponentLink2Description: Datasheet; ComponentLink2URL: http://documentation.renesas.com/eng/products/assp/rej03f0007_m62495afp.pdf; ComponentLink3Description: Packaging Specification; ComponentLink3URL: http://sg.renesas.com/media/products/common_info/package/pdf/ic/code/prsp0024ga_a.pdf
footprint PRSP0024GA-A_N (SOP, 24-Leads, Body 10.1x5.3mm, Pitch 0.8mm, IPC Medium Density)
footprint PRSP0024GA-A_L (SOP, 24-Leads, Body 10.1x5.3mm, Pitch 0.8mm, IPC High Density)
footprint PRSP0024GA-A_M (SOP, 24-Leads, Body 10.1x5.3mm, Pitch 0.8mm, IPC Low Density)
pins: 1 INA1 (in), 2 INB1 (in), 3 INC1 (in), 4 IND1 (in), 5 INE1 (in), 6 SELOUT1 (out), 7 VOLIN1 (in), 8 TONEH1, 9 TONEL1, 10 OUT1 (out), 11 GND (power), 12 VDD (power), 13 CONT (in), 14 VSS (power), 15 OUT2 (out), 16 TONEL2, 17 TONEH2, 18 VOLIN2 (in), 19 SELOUT2 (out), 20 INE2 (in), 21 IND2 (in), 22 INC2 (in), 23 INB2 (in), 24 INA2 (in)

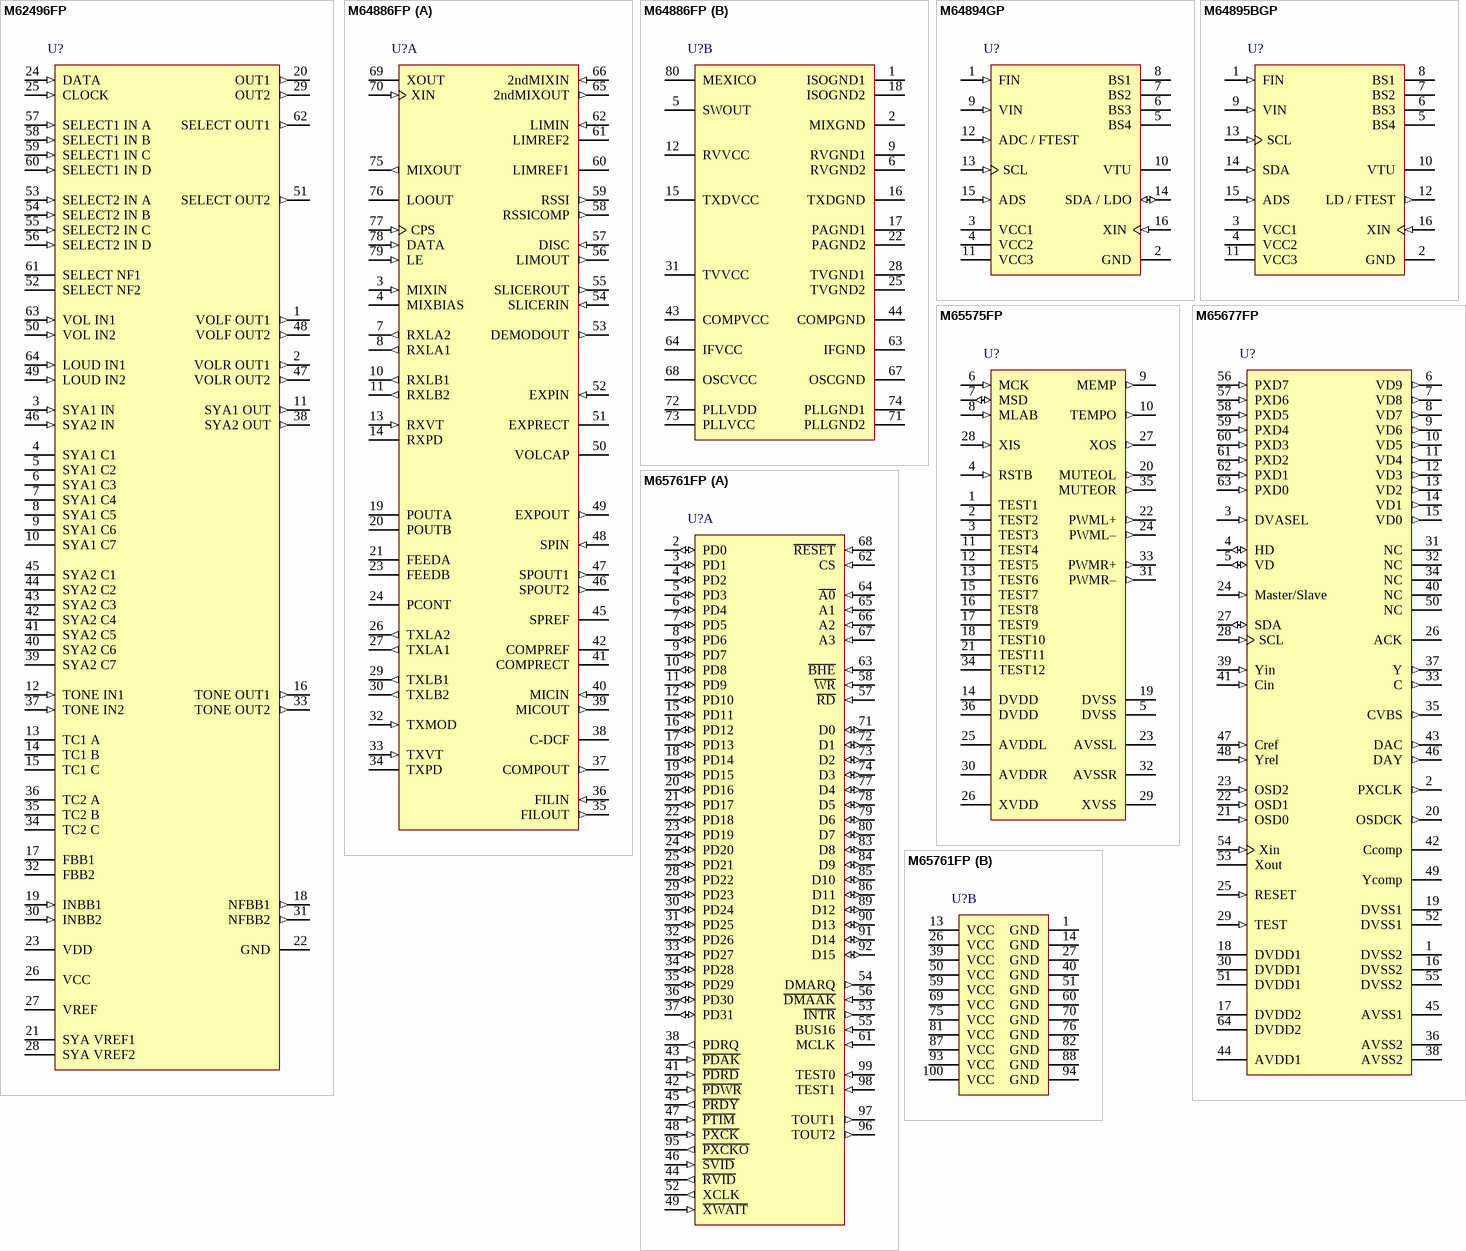
[diagram p11: symbols M62496FP to M65761FP]

## M62496FP
designator U?
Electronic Volume Control with Speaten Filter, 64-Pin QFP; Published: 5-Feb-2010; DatasheetVersion: Rev.2.01, Mar-2008; PackageVersion: Sep-2005; PackageReference: PRQP0064GA-A; Publisher: Altium Limited; PackageDescription: 64-Pin Plastic Quad Flat Pack, 14 x 14 x 2.8 mm Body, 0.8 mm Pitch; Code_JEITA: P-QFP64-14x14-0.80; ComponentLink1Description: Manufacturer Link; ComponentLink1URL: http://sg.renesas.com/fmwk.jsp?cnt=assp_category_landing.jsp&fp=/products/assp; ComponentLink2Description: Datasheet; ComponentLink2URL: http://documentation.renesas.com/eng/products/assp/rej03f0221_m62496fpds.pdf; ComponentLink3Description: Packaging Specification; ComponentLink3URL: http://sg.renesas.com/media/products/common_info/package/pdf/ic/code/prqp0064ga_a.pdf
footprint PRQP0064GA-A_N (QFP, 64-Leads, Body 14x14mm, Pitch 0.8mm, IPC Medium Density)
footprint PRQP0064GA-A_L (QFP, 64-Leads, Body 14x14mm, Pitch 0.8mm, IPC High Density)
footprint PRQP0064GA-A_M (QFP, 64-Leads, Body 14x14mm, Pitch 0.8mm, IPC Low Density)
pins: 1 VOLF OUT1 (out), 2 VOLR OUT1 (out), 3 SYA1 IN (in), 4 SYA1 C1, 5 SYA1 C2, 6 SYA1 C3, 7 SYA1 C4, 8 SYA1 C5, 9 SYA1 C6, 10 SYA1 C7, 11 SYA1 OUT (out), 12 TONE IN1 (in), 13 TC1 A, 14 TC1 B, 15 TC1 C, 16 TONE OUT1 (out), 17 FBB1, 18 NFBB1 (out), 19 INBB1 (in), 20 OUT1 (out), 21 SYA VREF1, 22 GND (power), 23 VDD (power), 24 DATA (in), 25 CLOCK (in), 26 VCC (power), 27 VREF, 28 SYA VREF2, 29 OUT2 (out), 30 INBB2 (in), 31 NFBB2 (out), 32 FBB2, 33 TONE OUT2 (out), 34 TC2 C, 35 TC2 B, 36 TC2 A, 37 TONE IN2 (in), 38 SYA2 OUT (out), 39 SYA2 C7, 40 SYA2 C6, 41 SYA2 C5, 42 SYA2 C4, 43 SYA2 C3, 44 SYA2 C2, 45 SYA2 C1, 46 SYA2 IN (in), 47 VOLR OUT2 (out), 48 VOLF OUT2 (out), 49 LOUD IN2 (in), 50 VOL IN2 (in), 51 SELECT OUT2 (out), 52 SELECT NF2, 53 SELECT2 IN A (in), 54 SELECT2 IN B (in), 55 SELECT2 IN C (in), 56 SELECT2 IN D (in), 57 SELECT1 IN A (in), 58 SELECT1 IN B (in), 59 SELECT1 IN C (in), 60 SELECT1 IN D (in), 61 SELECT NF1, 62 SELECT OUT1 (out), 63 VOL IN1 (in), 64 LOUD IN1 (in)

## M64886FP
designator U?
RF Transceiver for Short-range Wireless, 80-Pin QFP; Published: 5-Feb-2010; DatasheetVersion: Rev.1.0, Sep-2003; PackageVersion: Sep-2005; PackageReference: PLQP0080KB-A; Publisher: Altium Limited; PackageDescription: 80-Pin Plastic Low Profile QFP, 12 x 12 x 1.4 mm Body, 0.5 mm Pitch; Code_JEITA: P-LQFP80-12x12-0.50; Code_IPC: SQFP50P1400X1400-80; ComponentLink1Description: Manufacturer Link; ComponentLink1URL: http://sg.renesas.com/fmwk.jsp?cnt=assp_category_landing.jsp&fp=/products/assp; ComponentLink2Description: Datasheet; ComponentLink2URL: http://documentation.renesas.com/eng/products/assp/rej03f0087_m64886fp.pdf; ComponentLink3Description: Packaging Specification; ComponentLink3URL: http://sg.renesas.com/media/products/common_info/package/pdf/ic/code/plqp0080kb_a.pdf
footprint PLQP0080KB-A_N (Shrink QFP, 80-Leads, Body 12x12mm, Pitch 0.5mm, IPC Medium Density)
footprint PLQP0080KB-A_L (Shrink QFP, 80-Leads, Body 12x12mm, Pitch 0.5mm, IPC High Density)
footprint PLQP0080KB-A_M (Shrink QFP, 80-Leads, Body 12x12mm, Pitch 0.5mm, IPC Low Density)
part A pins: 3 MIXIN (in), 4 MIXBIAS, 7 RXLA2 (out), 8 RXLA1 (out), 10 RXLB1 (out), 11 RXLB2 (out), 13 RXVT (in), 14 RXPD, 19 POUTA (oc), 20 POUTB (oc), 21 FEEDA (oc), 23 FEEDB (oc), 24 PCONT, 26 TXLA2 (out), 27 TXLA1 (out), 29 TXLB1 (out), 30 TXLB2 (out), 32 TXMOD (in), 33 TXVT (in), 34 TXPD, 35 FILOUT (out), 36 FILIN (in), 37 COMPOUT (out), 38 C-DCF, 39 MICOUT (out), 40 MICIN (in), 41 COMPRECT, 42 COMPREF, 45 SPREF, 46 SPOUT2 (out), 47 SPOUT1 (out), 48 SPIN (in), 49 EXPOUT (out), 50 VOLCAP, 51 EXPRECT, 52 EXPIN (in), 53 DEMODOUT (out), 54 SLICERIN (in), 55 SLICEROUT (out), 56 LIMOUT (out), 57 DISC (in), 58 RSSICOMP (out), 59 RSSI (out), 60 LIMREF1, 61 LIMREF2, 62 LIMIN (in), 65 2ndMIXOUT (out), 66 2ndMIXIN (in), 69 XOUT, 70 XIN (in), 75 MIXOUT (out), 76 LOOUT (oc), 77 CPS (in), 78 DATA (in), 79 LE (in)
part B pins: 1 ISOGND1 (power), 2 MIXGND (power), 5 SWOUT (power), 6 RVGND2 (power), 9 RVGND1 (power), 12 RVVCC (power), 15 TXDVCC (power), 16 TXDGND (power), 17 PAGND1 (power), 18 ISOGND2 (power), 22 PAGND2 (power), 25 TVGND2 (power), 28 TVGND1 (power), 31 TVVCC (power), 43 COMPVCC (power), 44 COMPGND (power), 63 IFGND (power), 64 IFVCC (power), 67 OSCGND (power), 68 OSCVCC (power), 71 PLLGND2 (power), 72 PLLVDD (power), 73 PLLVCC (power), 74 PLLGND1 (power), 80 MEXICO (power)

## M64894GP
designator U?
Serial Input PLL Frequency Synthesizer for TV/VCR, 16-Pin SOP; ComponentAvailability: EOL Product; Published: 5-Feb-2010; DatasheetVersion: Rev.2.01, Jan-2008; PackageVersion: 2008; PackageReference: PRSP0016JA-A; Publisher: Altium Limited; PackageDescription: 16-Pin Plastic Shrink SOP, 5 x 4.4 x 1.5 mm Body, 0.65 mm Pitch; Code_JEITA: P-SSOP16-4.4x5-0.65; ComponentLink1Description: Manufacturer Link; ComponentLink1URL: http://sg.renesas.com/fmwk.jsp?cnt=assp_category_landing.jsp&fp=/products/assp; ComponentLink2Description: Datasheet; ComponentLink2URL: http://documentation.renesas.com/eng/products/assp/rej03f0166_m64894fpds.pdf; ComponentLink3Description: Packaging Specification; ComponentLink3URL: http://sg.renesas.com/media/products/common_info/package/pdf/ic/code/prsp0016ja_a.pdf
footprint PRSP0016JA-A_N (SOP, 16-Leads, Body 5x4.4mm, Pitch 0.65mm, IPC Medium Density)
footprint PRSP0016JA-A_L (SOP, 16-Leads, Body 5x4.4mm, Pitch 0.65mm, IPC High Density)
footprint PRSP0016JA-A_M (SOP, 16-Leads, Body 5x4.4mm, Pitch 0.65mm, IPC Low Density)
pins: 1 FIN (in), 2 GND (power), 3 VCC1 (power), 4 VCC2 (power), 5 BS4 (oc), 6 BS3 (oc), 7 BS2 (oc), 8 BS1 (oc), 9 VIN (in), 10 VTU (hiz), 11 VCC3 (power), 12 ADC / FTEST (in), 13 SCL (in), 14 SDA / LDO (io), 15 ADS (in), 16 XIN (in)

## M64895BGP
designator U?
I²C Bus Frequency Synthesizer FOR TV/VTR, 16-Pin SOP; ComponentAvailability: EOL Product; Published: 5-Feb-2010; DatasheetVersion: Rev.1.0, Aug-2003; PackageVersion: 2008; PackageReference: PRSP0016JA-A; Publisher: Altium Limited; PackageDescription: 16-Pin Plastic Shrink SOP, 5 x 4.4 x 1.5 mm Body, 0.65 mm Pitch; Code_JEITA: P-SSOP16-4.4x5-0.65; ComponentLink1Description: Manufacturer Link; ComponentLink1URL: http://sg.renesas.com/fmwk.jsp?cnt=assp_category_landing.jsp&fp=/products/assp; ComponentLink2Description: Datasheet; ComponentLink2URL: http://documentation.renesas.com/eng/products/assp/rej03f0018_m64895bgp.pdf; ComponentLink3Description: Packaging Specification; ComponentLink3URL: http://sg.renesas.com/media/products/common_info/package/pdf/ic/code/prsp0016ja_a.pdf
footprint PRSP0016JA-A_N (SOP, 16-Leads, Body 5x4.4mm, Pitch 0.65mm, IPC Medium Density)
footprint PRSP0016JA-A_L (SOP, 16-Leads, Body 5x4.4mm, Pitch 0.65mm, IPC High Density)
footprint PRSP0016JA-A_M (SOP, 16-Leads, Body 5x4.4mm, Pitch 0.65mm, IPC Low Density)
pins: 1 FIN (in), 2 GND (power), 3 VCC1 (power), 4 VCC2 (power), 5 BS4 (oc), 6 BS3 (oc), 7 BS2 (oc), 8 BS1 (oc), 9 VIN (in), 10 VTU (hiz), 11 VCC3 (power), 12 LD / FTEST (out), 13 SCL (in), 14 SDA (in), 15 ADS (in), 16 XIN (in)

## M65575FP
designator U?
Rhythm phrase player, 36-Pin SOP; Published: 5-Feb-2010; DatasheetVersion: Rev.2.01, Jan-2008; PackageVersion: Sep-2005; PackageReference: PRSP0036GA-A; Publisher: Altium Limited; PackageDescription: 36-Pin Plastic Shrink SOP, 15 x 8.4 mm Body, 0.8 mm Pitch; Code_JEITA: P-SSOP36-8.4x15-0.80; ComponentLink1Description: Manufacturer Link; ComponentLink1URL: http://sg.renesas.com/fmwk.jsp?cnt=assp_category_landing.jsp&fp=/products/assp; ComponentLink2Description: Datasheet; ComponentLink2URL: http://documentation.renesas.com/eng/products/assp/rej03f0169_m65575fpds.pdf; ComponentLink3Description: Packaging Specification; ComponentLink3URL: http://sg.renesas.com/media/products/common_info/package/pdf/ic/code/prsp0036ga_a.pdf
footprint PRSP0036GA-A_N (SOP, 36-Leads, Body 15x8.4mm, Pitch 0.8mm, IPC Medium Density)
footprint PRSP0036GA-A_L (SOP, 36-Leads, Body 15x8.4mm, Pitch 0.8mm, IPC High Density)
footprint PRSP0036GA-A_M (SOP, 36-Leads, Body 15x8.4mm, Pitch 0.8mm, IPC Low Density)
pins: 1 TEST1, 2 TEST2, 3 TEST3, 4 RSTB (in), 5 DVSS (power), 6 MCK (in), 7 MSD (io), 8 MLAB (in), 9 MEMP (out), 10 TEMPO (out), 11 TEST4, 12 TEST5, 13 TEST6, 14 DVDD (power), 15 TEST7, 16 TEST8, 17 TEST9, 18 TEST10, 19 DVSS (power), 20 MUTEOL (out), 21 TEST11, 22 PWML+ (out), 23 AVSSL (power), 24 PWML– (out), 25 AVDDL (power), 26 XVDD (power), 27 XOS (out), 28 XIS (in), 29 XVSS (power), 30 AVDDR (power), 31 PWMR– (out), 32 AVSSR (power), 33 PWMR+ (out), 34 TEST12, 35 MUTEOR (out), 36 DVDD (power)

## M65677FP
designator U?
Digital NTSC/PAL Encoder, 64-Pin QFP; ComponentAvailability: EOL Product; Published: 5-Feb-2010; DatasheetVersion: Rev.2.01, Mar-2008; PackageVersion: Sep-2005; PackageReference: PRQP0064GA-A; Publisher: Altium Limited; PackageDescription: 64-Pin Plastic Quad Flat Pack, 14 x 14 x 2.8 mm Body, 0.8 mm Pitch; Code_JEITA: P-QFP64-14x14-0.80; ComponentLink1Description: Manufacturer Link; ComponentLink1URL: http://sg.renesas.com/fmwk.jsp?cnt=assp_category_landing.jsp&fp=/products/assp; ComponentLink2Description: Datasheet; ComponentLink2URL: http://documentation.renesas.com/eng/products/assp/rej03f0189_m65677fpds.pdf; ComponentLink3Description: Packaging Specification; ComponentLink3URL: http://sg.renesas.com/media/products/common_info/package/pdf/ic/code/prqp0064ga_a.pdf
footprint PRQP0064GA-A_N (QFP, 64-Leads, Body 14x14mm, Pitch 0.8mm, IPC Medium Density)
footprint PRQP0064GA-A_L (QFP, 64-Leads, Body 14x14mm, Pitch 0.8mm, IPC High Density)
footprint PRQP0064GA-A_M (QFP, 64-Leads, Body 14x14mm, Pitch 0.8mm, IPC Low Density)
pins: 1 DVSS2 (power), 2 PXCLK (out), 3 DVASEL (in), 4 HD (io), 5 VD (io), 6 VD9 (out), 7 VD8 (out), 8 VD7 (out), 9 VD6 (out), 10 VD5 (out), 11 VD4 (out), 12 VD3 (out), 13 VD2 (out), 14 VD1 (out), 15 VD0 (out), 16 DVSS2 (power), 17 DVDD2 (power), 18 DVDD1 (power), 19 DVSS1 (power), 20 OSDCK (out), 21 OSD0 (in), 22 OSD1 (in), 23 OSD2 (in), 24 Master/Slave (in), 25 RESET (in), 26 ACK (oc), 27 SDA (io), 28 SCL (in), 29 TEST (in), 30 DVDD1 (power), 31 NC, 32 NC, 33 C (out), 34 NC, 35 CVBS (out), 36 AVSS2 (power), 37 Y (out), 38 AVSS2 (power), 39 Yin (in), 40 NC, 41 Cin (in), 42 Ccomp, 43 DAC (out), 44 AVDD1 (power), 45 AVSS1 (power), 46 DAY (out), 47 Cref (in), 48 Yrel (in), 49 Ycomp, 50 NC, 51 DVDD1 (power), 52 DVSS1 (power), 53 Xout, 54 Xin (in), 55 DVSS2 (power), 56 PXD7 (in), 57 PXD6 (in), 58 PXD5 (in), 59 PXD4 (in), 60 PXD3 (in), 61 PXD2 (in), 62 PXD1 (in), 63 PXD0 (in), 64 DVDD2 (power)

## M65761FP
designator U?
JBIG (QM-Coder) LSI (ITU-T T.85), 100-Pin QFP; Published: 5-Feb-2010; DatasheetVersion: Rev.2.00, Sep-2007; PackageVersion: Sep-2005; PackageReference: PRQP0100JB-A; Publisher: Altium Limited; PackageDescription: 100-Pin Plastic Quad Flat Pack, 20 x 14 x 2.8 mm Body, 0.65 mm Pitch; Code_JEITA: P-QFP100-14x20-0.65; ComponentLink1Description: Manufacturer Link; ComponentLink1URL: http://sg.renesas.com/fmwk.jsp?cnt=assp_category_landing.jsp&fp=/products/assp; ComponentLink2Description: Datasheet; ComponentLink2URL: http://documentation.renesas.com/eng/products/assp/rej03f0234_m65761fpds.pdf; ComponentLink3Description: Packaging Specification; ComponentLink3URL: http://sg.renesas.com/media/products/common_info/package/pdf/ic/code/prqp0100jb_a.pdf
footprint PRQP0100JB-A_N (QFP, 100-Leads, Body 20x14mm, Pitch 0.65mm, IPC Medium Density)
footprint PRQP0100JB-A_L (QFP, 100-Leads, Body 20x14mm, Pitch 0.65mm, IPC High Density)
footprint PRQP0100JB-A_M (QFP, 100-Leads, Body 20x14mm, Pitch 0.65mm, IPC Low Density)
part A pins: 2 PD0 (io), 3 PD1 (io), 4 PD2 (io), 5 PD3 (io), 6 PD4 (io), 7 PD5 (io), 8 PD6 (io), 9 PD7 (io), 10 PD8 (io), 11 PD9 (io), 12 PD10 (io), 15 PD11 (io), 16 PD12 (io), 17 PD13 (io), 18 PD14 (io), 19 PD15 (io), 20 PD16 (io), 21 PD17 (io), 22 PD18 (io), 23 PD19 (io), 24 PD20 (io), 25 PD21 (io), 28 PD22 (io), 29 PD23 (io), 30 PD24 (io), 31 PD25 (io), 32 PD26 (io), 33 PD27 (io), 34 PD28 (io), 35 PD29 (io), 36 PD30 (io), 37 PD31 (io), 38 PDRQ (out), 41 ~{PDRD} (in), 42 ~{PDWR} (in), 43 ~{PDAK} (in), 44 ~{RVID} (out), 45 ~{PRDY} (out), 46 ~{SVID} (in), 47 ~{PTIM} (in), 48 ~{PXCK} (in), 49 ~{XWAIT} (in), 52 XCLK (out), 53 ~{INTR} (out), 54 DMARQ (out), 55 BUS16 (in), 56 ~{DMAAK} (in), 57 ~{RD} (in), 58 ~{WR} (in), 61 MCLK (in), 62 CS (in), 63 ~{BHE} (in), 64 ~{A0} (in), 65 A1 (in), 66 A2 (in), 67 A3 (in), 68 ~{RESET} (in), 71 D0 (io), 72 D1 (io), 73 D2 (io), 74 D3 (io), 77 D4 (io), 78 D5 (io), 79 D6 (io), 80 D7 (io), 83 D8 (io), 84 D9 (io), 85 D10 (io), 86 D11 (io), 89 D12 (io), 90 D13 (io), 91 D14 (io), 92 D15 (io), 95 ~{PXCKO} (out), 96 TOUT2 (out), 97 TOUT1 (out), 98 TEST1 (in), 99 TEST0 (in)
part B pins: 1 GND (power), 13 VCC (power), 14 GND (power), 26 VCC (power), 27 GND (power), 39 VCC (power), 40 GND (power), 50 VCC (power), 51 GND (power), 59 VCC (power), 60 GND (power), 69 VCC (power), 70 GND (power), 75 VCC (power), 76 GND (power), 81 VCC (power), 82 GND (power), 87 VCC (power), 88 GND (power), 93 VCC (power), 94 GND (power), 100 VCC (power)

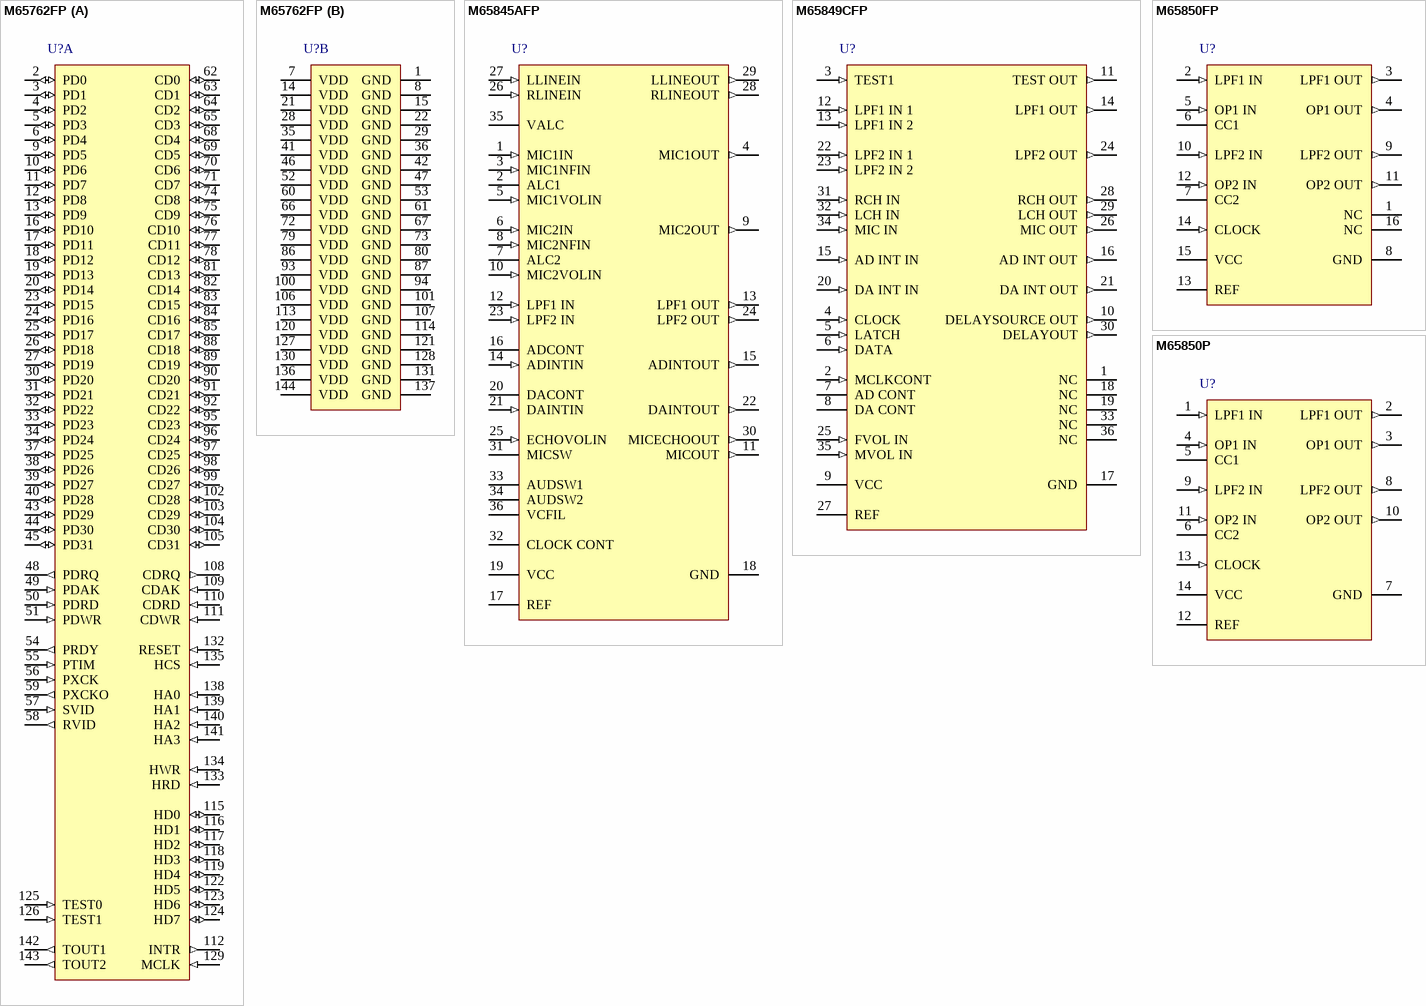
[diagram p12: symbols M65762FP to M65850P]